# EAGLE library part MCP4921_SMD (library PocketCube)
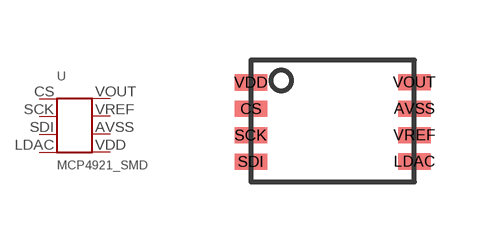
[diagram p16: symbol with the pads of MCP4921_SMD; footprint MCP4921_SMD]

Designator prefix -

## MCP4921_SMD  [MCP4921_SMD]
AVSS  VCC
CS  CS
LDAC  LADC
SCK  SCK
SDI  SDI
VDD  VDD
VOUT  VOUT
VREF  VREF

## Footprint MCP4921_SMD (pad centres in mm)
smd 0.813 x 0.406: AVSS 4.504,1.323; CS 0.414,1.322; LDAC 4.504,0.002; SCK 0.414,0.661; SDI 0.414,0.001; VDD 0.414,1.982; VOUT 4.504,1.983; VREF 4.504,0.662